# EAGLE library part KEYPAD (library BaseApp)
GH5001-ND
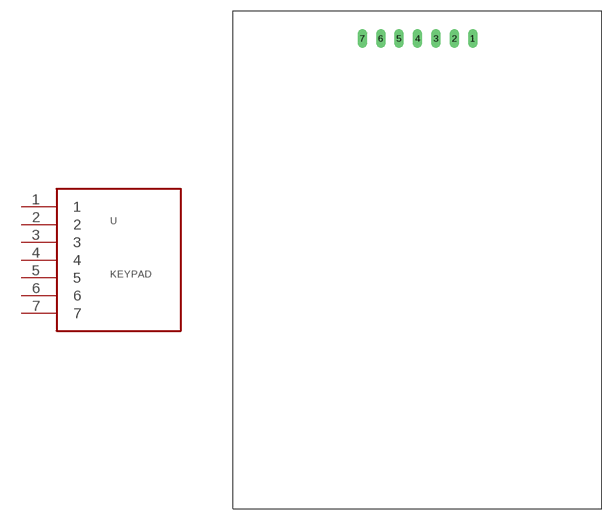
[diagram p57: symbol with the pads of KEYPAD; footprint KEYPAD]

Designator prefix -

## KEYPAD  [KEYPAD]
1  1
2  2
3  3
4  4
5  5
6  6
7  7

## Footprint KEYPAD (pad centres in mm)
drill 0.8 long: 1 7.62,30.48; 2 5.08,30.48; 3 2.54,30.48; 4 0,30.48; 5 -2.54,30.48; 6 -5.08,30.48; 7 -7.62,30.48